# EAGLE library part SN74LVC138AQPWRQ1 (library ruark2)
Decoder/Demultiplexer 1 x 3:8 16-TSSOP
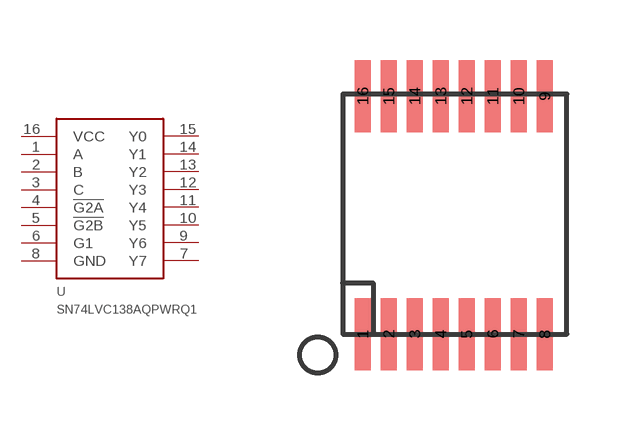
[diagram p160: symbol with the pads of TSSOP16; footprint TSSOP16]

Designator prefix U

## SN74LVC138AQPWRQ1 (PARTNO: 296-28968-1-ND)  [TSSOP16]
1  A
2  B
3  C
4  !G2A
5  !G2B
6  G1
7  Y7
8  GND
9  Y6
10  Y5
11  Y4
12  Y3
13  Y2
14  Y1
15  Y0
16  VCC

## Footprint TSSOP16 (pad centres in mm)
smd 0.4 x 1.8: 1 -2.275,-2.975; 2 -1.625,-2.975; 3 -0.975,-2.975; 4 -0.325,-2.975; 5 0.325,-2.975; 6 0.975,-2.975; 7 1.625,-2.975; 8 2.275,-2.975; 9 2.275,2.975; 10 1.625,2.975; 11 0.975,2.975; 12 0.325,2.975; 13 -0.325,2.975; 14 -0.975,2.975; 15 -1.625,2.975; 16 -2.275,2.975